# Altium schematic symbol library ZMV829BTA.SchLib: 1 symbol
Pins are listed as number, name and electrical type; pins without a type are passive.

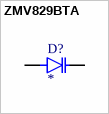
[diagram p0: symbol ZMV829BTA]

## ZMV829BTA
designator D?
Varactors Single 25 V Surface Mount SOD-323; MF: Diodes Inc.; MP: ZMV829BTA; Value: *; SnapEDA_Link: https://www.snapeda.com/parts/ZMV829BTA/Diodes+Inc./view-part/?ref=snap; Purchase-URL: https://pricing.snapeda.com/search/part/ZMV829BTA/?ref=eda; Availability: In Stock; Price: None; Package: SOD-323 Diodes Inc.; Check_prices: https://www.snapeda.com/parts/ZMV829BTA/Diodes+Inc./view-part/?ref=eda
footprint SOD2512X116N
pins: A, K